# Altium integrated library Analog Devices Data Converters Analog-to-Digital Converters.IntLib: 2400 symbols (part 163 of 338)
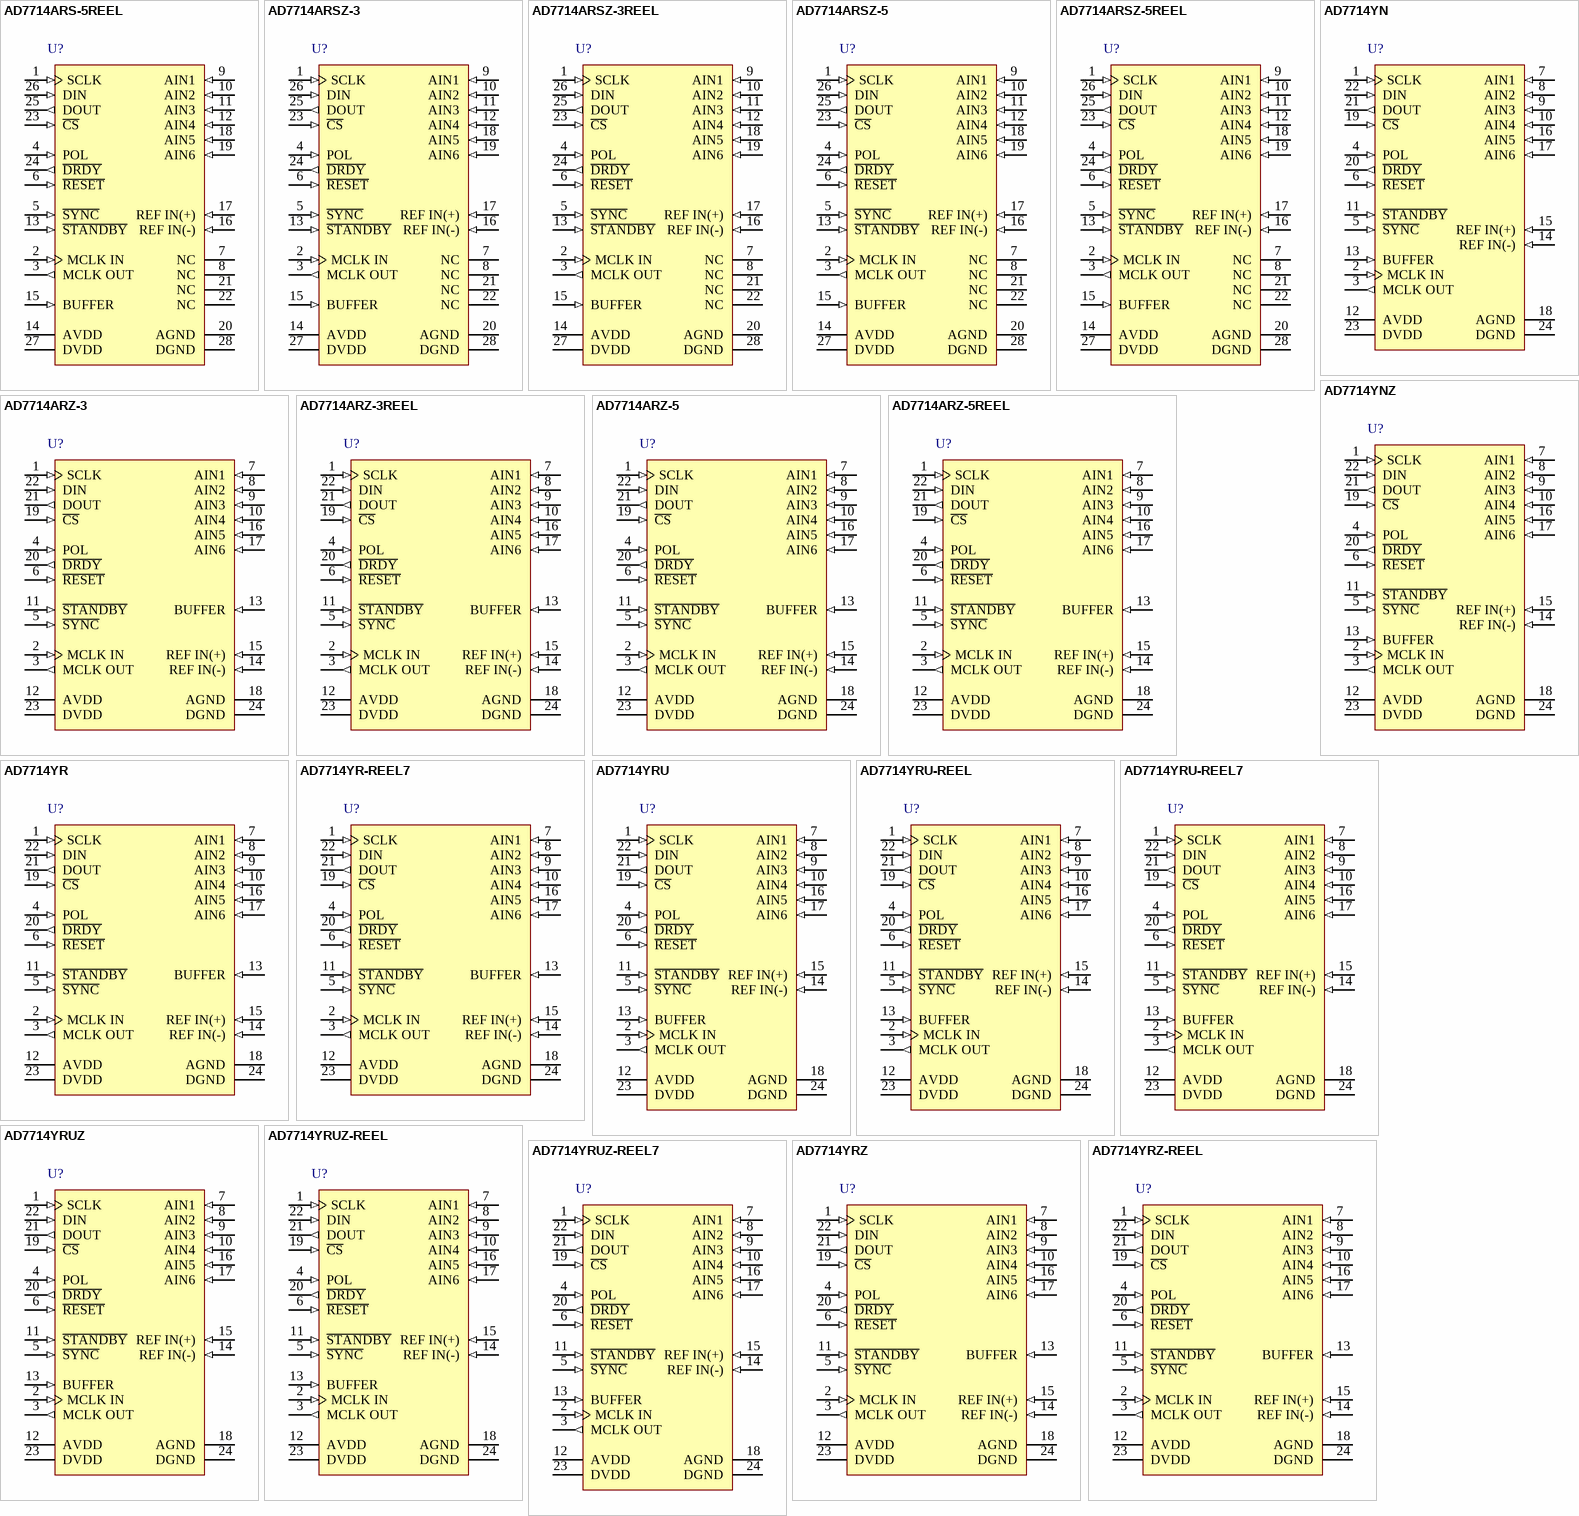
[diagram p247: symbols AD7714ARS-5REEL to AD7714YRZ-REEL]

## AD7714ARZ-3
designator U?
5 Channel 24-Bit Signal Conditioning Analog-to-Digital Converter with Serial, SPI Interface, 500 uA, CMOS, 3 V / 5 V, 1KSPS, -40 to +85 degC, RW-24, Pb-Free, Tube; Part Number: AD7714; Manufacturer: Analog Devices; Resolution (Bits): 24; Channels: 5; Throughput Rate (SPS): 1K; Interface: Ser, SPI; DatasheetVersion: Rev.C; PackageVersion: 060706-A; PackageReference: RW-24; PackageDescription: 24-Lead Standard Small Outline Package [SOIC_W]; RoHS: Y; Packing: Tube; Mounting Technology: Surface Mount; Code_JEDEC: MS-013-AD; ComponentLink1Description: Manufacturer URL; ComponentLink1URL: http://www.analog.com/en/index.html; ComponentLink2Description: Datasheet; ComponentLink2URL: http://www.analog.com/static/imported-files/data_sheets/AD7714.pdf; ComponentLink3Description: Package Specification; ComponentLink3URL: http://www.analog.com/static/imported-files/packages/33665150946139RW_24.pdf; ComponentLink4Description: Product URL; ComponentLink4URL: http://www.analog.com/en/analog-to-digital-converters/ad-converters/ad7714/products/product.html
footprint RW-24_N (SOIC, 24-Leads, Body 15.4x7.5mm, Pitch 1.27mm, IPC Medium Density)
footprint RW-24_L (SOIC, 24-Leads, Body 15.4x7.5mm, Pitch 1.27mm, IPC High Density)
footprint RW-24_M (SOIC, 24-Leads, Body 15.4x7.5mm, Pitch 1.27mm, IPC Low Density)
pins: 1 SCLK (in) "Serial Clock. Logic Input. An external serial clock is applied to this input to access serial data from the AD7714. This serial clock can be a continuous clock with all data transmitted in a continuous train of pulses.(See Datasheet)", 2 MCLK IN (in) "Master Clock signal for the device. This can be provided in the form of a crystal/resonator or external clock. A crystal/resonator can be tied across the MCLK IN and MCLK OUT pins. Alternatively, the MCLK IN pin can be (See Datasheet)", 3 MCLK OUT (out) "When the master clock for the device is a crystal/resonator, the crystal/resonator  is connected between MCLK IN and MCLK OUT. If an external clock is applied to the MCLK IN, MCLK OUT provides an inverted clock signal. This (See Datasheet)", 4 POL (in) "Clock Polarity. Logic Input. With this input low, the first transition of the serial clock in a data transfer operation is from a low to a high. In microcontroller applications, this means that the serial clock should idle (See Datasheet)", 5 ~{SYNC} (in) "Logic Input which allows for synchronization of the digital filters and analog modulators when using a number of AD7714s. While S\Y\N\C\ is low, the nodes of the digital filter, the filter control logic and the calibration (See Datasheet)", 6 ~{RESET} (in) "Logic Input. Active low input which resets the control logic, interface logic, digital filter and analog modulator of the part to power-on status.", 7 AIN1 (in) "Analog Input Channel 1. Programmable-gain analog input which can be used as a pseudo-differential input when used with AIN6 or as the positive input of a differential analog input pair when used with AIN2 (see Communications (See Datasheet)", 8 AIN2 (in) "Analog Input Channel 2. Programmable-gain analog input which can be used as a pseudo-differential input  when used with AIN6 or as the negative input of a differential analog input pair when used with AIN1 (see (See Datasheet)", 9 AIN3 (in) "Analog Input Channel 3. Programmable-gain analog input which can be used as a pseudo-differential input when used with AIN6 or as the positive input of a differential analog input pair when used with AIN4 (see Communications (See Datasheet)", 10 AIN4 (in) "Analog Input Channel 4. Programmable-gain analog input which can be used as a pseudo-differential input when used with AIN6 or as the negative input of a differential analog input pair when used with AIN3 (see Communications (See Datasheet)", 11 ~{STANDBY} (in) "Logic Input. Taking this pin low shuts down the analog and digital circuitry, reducing current consumption to typically 5 uA.", 12 AVDD (power) "Analog Positive Supply Voltage, A Grade Versions: +3.3 V nominal (AD7714-3) or +5 V nominal (AD7714-5);Y Grade Versions: 3 V or 5 V nominal.", 13 BUFFER (in) "Buffer Option Select. Logic Input. With this input low, the on-chip buffer on the analog input (after the multiplexer and before the analog modulator) is shorted out. With the buffer shorted out the current flowing in the (See Datasheet)", 14 REF IN(-) (in) "Reference Input. Negative input of the differential reference input to the AD7714. The REF IN(-) can lie anywhere between AVDD and AGND provided REFIN(+) is greater than REF IN(-).", 15 REF IN(+) (in) "Reference Input. Positive input of the differential reference input to the AD7714. The reference input is differential with the provision that REF IN(+) must be greater than REF IN(-). REF IN(+) can lie anywhere between AVDD (See Datasheet)", 16 AIN5 (in) "Analog Input Channel 5. Programmable-gain analog input which is the positive input of a differential analog input pair when used with AIN6 (see Communications Register section).", 17 AIN6 (in) "Analog Input Channel 6. Reference point for AIN1 through AIN4 in pseudo-differential mode or as the negative input of a differential input pair when used with AIN5 (see Communications Register section).", 18 AGND (power) "Ground reference point for analog circuitry.", 19 ~{CS} (in) "Chip Select. Active low Logic Input used to select the AD7714. With this input hard-wired low, the AD7714 can operate in its three-wire interface mode with SCLK, DIN and DOUT used to interface to the device. C\S\ can be used (See Datasheet)", 20 ~{DRDY} (out) "Logic output. A logic low on this output indicates that a new output word is available from the AD7714 data register. The D\R\D\Y\ pin will return high upon completion of a read operation of a full output word. If no data (See Datasheet)", 21 DOUT (out) "Serial Data Output with serial data being read from the output shift register on the part. This output shift register can contain information from the calibration registers, mode register, communications register, filter (See Datasheet)", 22 DIN (in) "Serial Data Input with serial data being written to the input shift register on the part. Data from this input shift register is transferred to the calibration registers, mode register, communications register or filter (See Datasheet)", 23 DVDD (power) "Digital Supply Voltage, A Grade Versions: +3.3 V or +5 V nominal; Y Grade Versions: 3 V or 5 V nominal.", 24 DGND (power) "Ground reference point for digital circuitry."

## AD7714ARZ-3REEL
designator U?
5 Channel 24-Bit Signal Conditioning Analog-to-Digital Converter with Serial, SPI Interface, 500 uA, CMOS, 3 V, 1KSPS, -40 to +85 degC, Pb-Free, Reel; Part Number: AD7714; Manufacturer: Analog Devices; Resolution (Bits): 24; Channels: 5; Throughput Rate (SPS): 1K; Interface: Ser, SPI; DatasheetVersion: Rev.C; PackageVersion: 060706-A; PackageReference: RW-24; PackageDescription: 24-Lead Standard Small Outline Package [SOIC_W]; RoHS: Y; Packing: Reel; Mounting Technology: Surface Mount; Code_JEDEC: MS-013-AD; ComponentLink1Description: Manufacturer URL; ComponentLink1URL: http://www.analog.com/en/index.html; ComponentLink2Description: Datasheet; ComponentLink2URL: http://www.analog.com/static/imported-files/data_sheets/AD7714.pdf; ComponentLink3Description: Package Specification; ComponentLink3URL: http://www.analog.com/static/imported-files/packages/33665150946139RW_24.pdf; ComponentLink4Description: Product URL; ComponentLink4URL: http://www.analog.com/en/analog-to-digital-converters/ad-converters/ad7714/products/product.html
footprint RW-24_N (SOIC, 24-Leads, Body 15.4x7.5mm, Pitch 1.27mm, IPC Medium Density)
footprint RW-24_L (SOIC, 24-Leads, Body 15.4x7.5mm, Pitch 1.27mm, IPC High Density)
footprint RW-24_M (SOIC, 24-Leads, Body 15.4x7.5mm, Pitch 1.27mm, IPC Low Density)
pins: 1 SCLK (in) "Serial Clock. Logic Input. An external serial clock is applied to this input to access serial data from the AD7714. This serial clock can be a continuous clock with all data transmitted in a continuous train of pulses.(See Datasheet)", 2 MCLK IN (in) "Master Clock signal for the device. This can be provided in the form of a crystal/resonator or external clock. A crystal/resonator can be tied across the MCLK IN and MCLK OUT pins. Alternatively, the MCLK IN pin can be (See Datasheet)", 3 MCLK OUT (out) "When the master clock for the device is a crystal/resonator, the crystal/resonator  is connected between MCLK IN and MCLK OUT. If an external clock is applied to the MCLK IN, MCLK OUT provides an inverted clock signal. This (See Datasheet)", 4 POL (in) "Clock Polarity. Logic Input. With this input low, the first transition of the serial clock in a data transfer operation is from a low to a high. In microcontroller applications, this means that the serial clock should idle (See Datasheet)", 5 ~{SYNC} (in) "Logic Input which allows for synchronization of the digital filters and analog modulators when using a number of AD7714s. While S\Y\N\C\ is low, the nodes of the digital filter, the filter control logic and the calibration (See Datasheet)", 6 ~{RESET} (in) "Logic Input. Active low input which resets the control logic, interface logic, digital filter and analog modulator of the part to power-on status.", 7 AIN1 (in) "Analog Input Channel 1. Programmable-gain analog input which can be used as a pseudo-differential input when used with AIN6 or as the positive input of a differential analog input pair when used with AIN2 (see Communications (See Datasheet)", 8 AIN2 (in) "Analog Input Channel 2. Programmable-gain analog input which can be used as a pseudo-differential input  when used with AIN6 or as the negative input of a differential analog input pair when used with AIN1 (see (See Datasheet)", 9 AIN3 (in) "Analog Input Channel 3. Programmable-gain analog input which can be used as a pseudo-differential input when used with AIN6 or as the positive input of a differential analog input pair when used with AIN4 (see Communications (See Datasheet)", 10 AIN4 (in) "Analog Input Channel 4. Programmable-gain analog input which can be used as a pseudo-differential input when used with AIN6 or as the negative input of a differential analog input pair when used with AIN3 (see Communications (See Datasheet)", 11 ~{STANDBY} (in) "Logic Input. Taking this pin low shuts down the analog and digital circuitry, reducing current consumption to typically 5 uA.", 12 AVDD (power) "Analog Positive Supply Voltage, A Grade Versions: +3.3 V nominal (AD7714-3) or +5 V nominal (AD7714-5);Y Grade Versions: 3 V or 5 V nominal.", 13 BUFFER (in) "Buffer Option Select. Logic Input. With this input low, the on-chip buffer on the analog input (after the multiplexer and before the analog modulator) is shorted out. With the buffer shorted out the current flowing in the (See Datasheet)", 14 REF IN(-) (in) "Reference Input. Negative input of the differential reference input to the AD7714. The REF IN(-) can lie anywhere between AVDD and AGND provided REFIN(+) is greater than REF IN(-).", 15 REF IN(+) (in) "Reference Input. Positive input of the differential reference input to the AD7714. The reference input is differential with the provision that REF IN(+) must be greater than REF IN(-). REF IN(+) can lie anywhere between AVDD (See Datasheet)", 16 AIN5 (in) "Analog Input Channel 5. Programmable-gain analog input which is the positive input of a differential analog input pair when used with AIN6 (see Communications Register section).", 17 AIN6 (in) "Analog Input Channel 6. Reference point for AIN1 through AIN4 in pseudo-differential mode or as the negative input of a differential input pair when used with AIN5 (see Communications Register section).", 18 AGND (power) "Ground reference point for analog circuitry.", 19 ~{CS} (in) "Chip Select. Active low Logic Input used to select the AD7714. With this input hard-wired low, the AD7714 can operate in its three-wire interface mode with SCLK, DIN and DOUT used to interface to the device. C\S\ can be used (See Datasheet)", 20 ~{DRDY} (out) "Logic output. A logic low on this output indicates that a new output word is available from the AD7714 data register. The D\R\D\Y\ pin will return high upon completion of a read operation of a full output word. If no data (See Datasheet)", 21 DOUT (out) "Serial Data Output with serial data being read from the output shift register on the part. This output shift register can contain information from the calibration registers, mode register, communications register, filter (See Datasheet)", 22 DIN (in) "Serial Data Input with serial data being written to the input shift register on the part. Data from this input shift register is transferred to the calibration registers, mode register, communications register or filter (See Datasheet)", 23 DVDD (power) "Digital Supply Voltage, A Grade Versions: +3.3 V or +5 V nominal; Y Grade Versions: 3 V or 5 V nominal.", 24 DGND (power) "Ground reference point for digital circuitry."

## AD7714ARZ-5
designator U?
5 Channel 24-Bit Signal Conditioning Analog-to-Digital Converter with Serial, SPI Interface, 500 uA, CMOS, 3 V / 5 V, 1KSPS, -40 to +85 degC, RW-24, Pb-Free, Tube; Part Number: AD7714; Manufacturer: Analog Devices; Resolution (Bits): 24; Channels: 5; Throughput Rate (SPS): 1K; Interface: Ser, SPI; DatasheetVersion: Rev.C; PackageVersion: 060706-A; PackageReference: RW-24; PackageDescription: 24-Lead Standard Small Outline Package [SOIC_W]; RoHS: Y; Packing: Tube; Mounting Technology: Surface Mount; Code_JEDEC: MS-013-AD; ComponentLink1Description: Manufacturer URL; ComponentLink1URL: http://www.analog.com/en/index.html; ComponentLink2Description: Datasheet; ComponentLink2URL: http://www.analog.com/static/imported-files/data_sheets/AD7714.pdf; ComponentLink3Description: Package Specification; ComponentLink3URL: http://www.analog.com/static/imported-files/packages/33665150946139RW_24.pdf; ComponentLink4Description: Product URL; ComponentLink4URL: http://www.analog.com/en/analog-to-digital-converters/ad-converters/ad7714/products/product.html
footprint RW-24_N (SOIC, 24-Leads, Body 15.4x7.5mm, Pitch 1.27mm, IPC Medium Density)
footprint RW-24_L (SOIC, 24-Leads, Body 15.4x7.5mm, Pitch 1.27mm, IPC High Density)
footprint RW-24_M (SOIC, 24-Leads, Body 15.4x7.5mm, Pitch 1.27mm, IPC Low Density)
pins: 1 SCLK (in) "Serial Clock. Logic Input. An external serial clock is applied to this input to access serial data from the AD7714. This serial clock can be a continuous clock with all data transmitted in a continuous train of pulses.(See Datasheet)", 2 MCLK IN (in) "Master Clock signal for the device. This can be provided in the form of a crystal/resonator or external clock. A crystal/resonator can be tied across the MCLK IN and MCLK OUT pins. Alternatively, the MCLK IN pin can be (See Datasheet)", 3 MCLK OUT (out) "When the master clock for the device is a crystal/resonator, the crystal/resonator  is connected between MCLK IN and MCLK OUT. If an external clock is applied to the MCLK IN, MCLK OUT provides an inverted clock signal. This (See Datasheet)", 4 POL (in) "Clock Polarity. Logic Input. With this input low, the first transition of the serial clock in a data transfer operation is from a low to a high. In microcontroller applications, this means that the serial clock should idle (See Datasheet)", 5 ~{SYNC} (in) "Logic Input which allows for synchronization of the digital filters and analog modulators when using a number of AD7714s. While S\Y\N\C\ is low, the nodes of the digital filter, the filter control logic and the calibration (See Datasheet)", 6 ~{RESET} (in) "Logic Input. Active low input which resets the control logic, interface logic, digital filter and analog modulator of the part to power-on status.", 7 AIN1 (in) "Analog Input Channel 1. Programmable-gain analog input which can be used as a pseudo-differential input when used with AIN6 or as the positive input of a differential analog input pair when used with AIN2 (see Communications (See Datasheet)", 8 AIN2 (in) "Analog Input Channel 2. Programmable-gain analog input which can be used as a pseudo-differential input  when used with AIN6 or as the negative input of a differential analog input pair when used with AIN1 (see (See Datasheet)", 9 AIN3 (in) "Analog Input Channel 3. Programmable-gain analog input which can be used as a pseudo-differential input when used with AIN6 or as the positive input of a differential analog input pair when used with AIN4 (see Communications (See Datasheet)", 10 AIN4 (in) "Analog Input Channel 4. Programmable-gain analog input which can be used as a pseudo-differential input when used with AIN6 or as the negative input of a differential analog input pair when used with AIN3 (see Communications (See Datasheet)", 11 ~{STANDBY} (in) "Logic Input. Taking this pin low shuts down the analog and digital circuitry, reducing current consumption to typically 5 uA.", 12 AVDD (power) "Analog Positive Supply Voltage, A Grade Versions: +3.3 V nominal (AD7714-3) or +5 V nominal (AD7714-5);Y Grade Versions: 3 V or 5 V nominal.", 13 BUFFER (in) "Buffer Option Select. Logic Input. With this input low, the on-chip buffer on the analog input (after the multiplexer and before the analog modulator) is shorted out. With the buffer shorted out the current flowing in the (See Datasheet)", 14 REF IN(-) (in) "Reference Input. Negative input of the differential reference input to the AD7714. The REF IN(-) can lie anywhere between AVDD and AGND provided REFIN(+) is greater than REF IN(-).", 15 REF IN(+) (in) "Reference Input. Positive input of the differential reference input to the AD7714. The reference input is differential with the provision that REF IN(+) must be greater than REF IN(-). REF IN(+) can lie anywhere between AVDD (See Datasheet)", 16 AIN5 (in) "Analog Input Channel 5. Programmable-gain analog input which is the positive input of a differential analog input pair when used with AIN6 (see Communications Register section).", 17 AIN6 (in) "Analog Input Channel 6. Reference point for AIN1 through AIN4 in pseudo-differential mode or as the negative input of a differential input pair when used with AIN5 (see Communications Register section).", 18 AGND (power) "Ground reference point for analog circuitry.", 19 ~{CS} (in) "Chip Select. Active low Logic Input used to select the AD7714. With this input hard-wired low, the AD7714 can operate in its three-wire interface mode with SCLK, DIN and DOUT used to interface to the device. C\S\ can be used (See Datasheet)", 20 ~{DRDY} (out) "Logic output. A logic low on this output indicates that a new output word is available from the AD7714 data register. The D\R\D\Y\ pin will return high upon completion of a read operation of a full output word. If no data (See Datasheet)", 21 DOUT (out) "Serial Data Output with serial data being read from the output shift register on the part. This output shift register can contain information from the calibration registers, mode register, communications register, filter (See Datasheet)", 22 DIN (in) "Serial Data Input with serial data being written to the input shift register on the part. Data from this input shift register is transferred to the calibration registers, mode register, communications register or filter (See Datasheet)", 23 DVDD (power) "Digital Supply Voltage, A Grade Versions: +3.3 V or +5 V nominal; Y Grade Versions: 3 V or 5 V nominal.", 24 DGND (power) "Ground reference point for digital circuitry."

## AD7714ARZ-5REEL
designator U?
5 Channel 24-Bit Signal Conditioning Analog-to-Digital Converter with Serial, SPI Interface, 500 uA, CMOS, 5 V, 1KSPS, -40 to +85 degC, Pb-Free, Reel; Part Number: AD7714; Manufacturer: Analog Devices; Resolution (Bits): 24; Channels: 5; Throughput Rate (SPS): 1K; Interface: Ser, SPI; DatasheetVersion: Rev.C; PackageVersion: 060706-A; PackageReference: RW-24; PackageDescription: 24-Lead Standard Small Outline Package [SOIC_W]; RoHS: Y; Packing: Reel; Mounting Technology: Surface Mount; Code_JEDEC: MS-013-AD; ComponentLink1Description: Manufacturer URL; ComponentLink1URL: http://www.analog.com/en/index.html; ComponentLink2Description: Datasheet; ComponentLink2URL: http://www.analog.com/static/imported-files/data_sheets/AD7714.pdf; ComponentLink3Description: Package Specification; ComponentLink3URL: http://www.analog.com/static/imported-files/packages/33665150946139RW_24.pdf; ComponentLink4Description: Product URL; ComponentLink4URL: http://www.analog.com/en/analog-to-digital-converters/ad-converters/ad7714/products/product.html
footprint RW-24_N (SOIC, 24-Leads, Body 15.4x7.5mm, Pitch 1.27mm, IPC Medium Density)
footprint RW-24_L (SOIC, 24-Leads, Body 15.4x7.5mm, Pitch 1.27mm, IPC High Density)
footprint RW-24_M (SOIC, 24-Leads, Body 15.4x7.5mm, Pitch 1.27mm, IPC Low Density)
pins: 1 SCLK (in) "Serial Clock. Logic Input. An external serial clock is applied to this input to access serial data from the AD7714. This serial clock can be a continuous clock with all data transmitted in a continuous train of pulses.(See Datasheet)", 2 MCLK IN (in) "Master Clock signal for the device. This can be provided in the form of a crystal/resonator or external clock. A crystal/resonator can be tied across the MCLK IN and MCLK OUT pins. Alternatively, the MCLK IN pin can be (See Datasheet)", 3 MCLK OUT (out) "When the master clock for the device is a crystal/resonator, the crystal/resonator  is connected between MCLK IN and MCLK OUT. If an external clock is applied to the MCLK IN, MCLK OUT provides an inverted clock signal. This (See Datasheet)", 4 POL (in) "Clock Polarity. Logic Input. With this input low, the first transition of the serial clock in a data transfer operation is from a low to a high. In microcontroller applications, this means that the serial clock should idle (See Datasheet)", 5 ~{SYNC} (in) "Logic Input which allows for synchronization of the digital filters and analog modulators when using a number of AD7714s. While S\Y\N\C\ is low, the nodes of the digital filter, the filter control logic and the calibration (See Datasheet)", 6 ~{RESET} (in) "Logic Input. Active low input which resets the control logic, interface logic, digital filter and analog modulator of the part to power-on status.", 7 AIN1 (in) "Analog Input Channel 1. Programmable-gain analog input which can be used as a pseudo-differential input when used with AIN6 or as the positive input of a differential analog input pair when used with AIN2 (see Communications (See Datasheet)", 8 AIN2 (in) "Analog Input Channel 2. Programmable-gain analog input which can be used as a pseudo-differential input  when used with AIN6 or as the negative input of a differential analog input pair when used with AIN1 (see (See Datasheet)", 9 AIN3 (in) "Analog Input Channel 3. Programmable-gain analog input which can be used as a pseudo-differential input when used with AIN6 or as the positive input of a differential analog input pair when used with AIN4 (see Communications (See Datasheet)", 10 AIN4 (in) "Analog Input Channel 4. Programmable-gain analog input which can be used as a pseudo-differential input when used with AIN6 or as the negative input of a differential analog input pair when used with AIN3 (see Communications (See Datasheet)", 11 ~{STANDBY} (in) "Logic Input. Taking this pin low shuts down the analog and digital circuitry, reducing current consumption to typically 5 uA.", 12 AVDD (power) "Analog Positive Supply Voltage, A Grade Versions: +3.3 V nominal (AD7714-3) or +5 V nominal (AD7714-5);Y Grade Versions: 3 V or 5 V nominal.", 13 BUFFER (in) "Buffer Option Select. Logic Input. With this input low, the on-chip buffer on the analog input (after the multiplexer and before the analog modulator) is shorted out. With the buffer shorted out the current flowing in the (See Datasheet)", 14 REF IN(-) (in) "Reference Input. Negative input of the differential reference input to the AD7714. The REF IN(-) can lie anywhere between AVDD and AGND provided REFIN(+) is greater than REF IN(-).", 15 REF IN(+) (in) "Reference Input. Positive input of the differential reference input to the AD7714. The reference input is differential with the provision that REF IN(+) must be greater than REF IN(-). REF IN(+) can lie anywhere between AVDD (See Datasheet)", 16 AIN5 (in) "Analog Input Channel 5. Programmable-gain analog input which is the positive input of a differential analog input pair when used with AIN6 (see Communications Register section).", 17 AIN6 (in) "Analog Input Channel 6. Reference point for AIN1 through AIN4 in pseudo-differential mode or as the negative input of a differential input pair when used with AIN5 (see Communications Register section).", 18 AGND (power) "Ground reference point for analog circuitry.", 19 ~{CS} (in) "Chip Select. Active low Logic Input used to select the AD7714. With this input hard-wired low, the AD7714 can operate in its three-wire interface mode with SCLK, DIN and DOUT used to interface to the device. C\S\ can be used (See Datasheet)", 20 ~{DRDY} (out) "Logic output. A logic low on this output indicates that a new output word is available from the AD7714 data register. The D\R\D\Y\ pin will return high upon completion of a read operation of a full output word. If no data (See Datasheet)", 21 DOUT (out) "Serial Data Output with serial data being read from the output shift register on the part. This output shift register can contain information from the calibration registers, mode register, communications register, filter (See Datasheet)", 22 DIN (in) "Serial Data Input with serial data being written to the input shift register on the part. Data from this input shift register is transferred to the calibration registers, mode register, communications register or filter (See Datasheet)", 23 DVDD (power) "Digital Supply Voltage, A Grade Versions: +3.3 V or +5 V nominal; Y Grade Versions: 3 V or 5 V nominal.", 24 DGND (power) "Ground reference point for digital circuitry."

## AD7714YN
designator U?
5 Channel 24-Bit Signal Conditioning Analog-to-Digital Converter with Serial, SPI Interface, 500 uA, CMOS, 3 V / 5 V, 1KSPS, -40 to +105 degC, N-24-1, Tube; Part Number: AD7714; Manufacturer: Analog Devices; Resolution (Bits): 24; Channels: 5; Throughput Rate (SPS): 1K; Interface: Ser, SPI; DatasheetVersion: Rev.C; PackageVersion: 071006-A; PackageReference: N-24-1; PackageDescription: 24-Lead Plastic Dual In-Line Package [PDIP] Narrow Body; RoHS: N; Packing: Tube; Mounting Technology: Through-hole; Code_JEDEC: MS-001; ComponentLink1Description: Manufacturer URL; ComponentLink1URL: http://www.analog.com/en/index.html; ComponentLink2Description: Datasheet; ComponentLink2URL: http://www.analog.com/static/imported-files/data_sheets/AD7714.pdf; ComponentLink3Description: Package Specification; ComponentLink3URL: http://www.analog.com/static/imported-files/packages/50726455539629N_24_1.pdf; ComponentLink4Description: Product URL; ComponentLink4URL: http://www.analog.com/en/analog-to-digital-converters/ad-converters/ad7714/products/product.html
footprint N-24-1 (DIP, 24-Leads, Row Spacing 7.62mm, Pitch 2.54mm, Body 31.9x6.6mm)
pins: 1 SCLK (in) "Serial Clock. Logic Input. An external serial clock is applied to this input to access serial data from the AD7714. This serial clock can be a continuous clock with all data transmitted in a continuous train of pulses.(See Datasheet)", 2 MCLK IN (in) "Master Clock signal for the device. This can be provided in the form of a crystal/resonator or external clock. A crystal/resonator can be tied across the MCLK IN and MCLK OUT pins. Alternatively, the MCLK IN pin can be (See Datasheet)", 3 MCLK OUT (out) "When the master clock for the device is a crystal/resonator, the crystal/resonator is connected between MCLK IN and MCLK OUT. If an external clock is applied to the MCLK IN, MCLK OUT provides an inverted clock signal. This (See Datasheet)", 4 POL (in) "Clock Polarity. Logic Input. With this input low, the first transition of the serial clock in a data transfer operation is from a low to a high. In microcontroller applications, this means that the serial clock should idle (See Datasheet)", 5 ~{SYNC} (in) "Logic Input which allows for synchronization of the digital filters and analog modulators when using a number of AD7714s. While S\Y\N\C\ is low, the nodes of the digital filter, the filter control logic and the calibration (See Datasheet)", 6 ~{RESET} (in) "Logic Input. Active low input which resets the control logic, interface logic, digital filter and analog modulator of the part to power-on status.", 7 AIN1 (in) "Analog Input Channel 1. Programmable-gain analog input which can be used as a pseudo-differential input when used with AIN6 or as the positive input of a differential analog input pair when used with AIN2 (see Communications (See Datasheet)", 8 AIN2 (in) "Analog Input Channel 2. Programmable-gain analog input which can be used as a pseudo-differential input when used with AIN6 or as the negative input of a differential analog input pair when used with AIN1 (see Communications (See Datasheet)", 9 AIN3 (in) "Analog Input Channel 3. Programmable-gain analog input which can be used as a pseudo-differential input when used with AIN6 or as the positive input of a differential analog input pair when used with AIN4 (see Communications (See Datasheet)", 10 AIN4 (in) "Analog Input Channel 4. Programmable-gain analog input which can be used as a pseudo-differential input when used with AIN6 or as the negative input of a differential analog input pair when used with AIN3 (see Communications (See Datasheet)", 11 ~{STANDBY} (in) "Logic Input. Taking this pin low shuts down the analog and digital circuitry, reducing current consumption to typically 5 uA.", 12 AVDD (power) "Analog Positive Supply Voltage, A Grade Versions: +3.3V nominal (AD7714-3) or +5V nominal (AD7714-5); Y Grade Versions: 3 V or 5 V nominal.", 13 BUFFER (in) "Buffer Option Select. Logic Input. With this input low, the on-chip buffer on the analog input (after the multiplexer and before the analog modulator) is shorted out. With the buffer shorted out the current flowing in the (See Datasheet)", 14 REF IN(-) (in) "Reference Input. Negative input of the differential reference input to the AD7714. The REF IN(-) can lie anywhere between AVDD and AGND provided REF IN(+) is greater than REF IN(-).", 15 REF IN(+) (in) "Reference Input. Positive input of the differential reference input to the AD7714. The reference input is differential with the provision that REF IN(+) must be greater than REF IN(-). REF IN(+) can lie anywhere between AVDD (See Datasheet)", 16 AIN5 (in) "Analog Input Channel 5. Programmable-gain analog input which is the positive input of a differential analog input pair when used with AIN6 (see Communications Register section).", 17 AIN6 (in) "Analog Input Channel 6. Reference point for AIN1 through AIN4 in pseudo-differential mode or as the negative input of a differential input pair when used with AIN5 (see Communications Register section).", 18 AGND (power) "Ground reference point for analog circuitry.", 19 ~{CS} (in) "Chip Select. Active low Logic Input used to select the AD7714. With this input hard-wired low, the AD7714 can operate in its three-wire interface mode with SCLK, DIN and DOUT used to interface to the device. C\S\ can be used (See Datasheet)", 20 ~{DRDY} (out) "Logic output. A logic low on this output indicates that a new output word is available from the AD7714 data register. The D\R\D\Y\ pin will return high upon completion of a read operation of a full output word. If no data (See Datasheet)", 21 DOUT (out) "Serial Data Output with serial data being read from the output shift register on the part. This output shift register can contain information from the calibration registers, mode register, communications register, filter (See Datasheet)", 22 DIN (in) "Serial Data Input with serial data being written to the input shift register on the part. Data from this input shift register is transferred to the calibration registers, mode register, communications register or filter (See Datasheet)", 23 DVDD (power) "Digital Supply Voltage, A Grade Versions: +3.3V or +5 V nominal; Y Grade Versions: 3 V or 5 V nominal.", 24 DGND (power) "Ground reference point for digital circuitry."

## AD7714YNZ
designator U?
5 Channel 24-Bit Signal Conditioning Analog-to-Digital Converter with Serial, SPI Interface, 500 uA, CMOS, 3 V / 5 V, 1KSPS, -40 to +105 degC, N-24-1, Pb-Free, Tube; Part Number: AD7714; Manufacturer: Analog Devices; Resolution (Bits): 24; Channels: 5; Throughput Rate (SPS): 1K; Interface: Ser, SPI; DatasheetVersion: Rev.C; PackageVersion: 071006-A; PackageReference: N-24-1; PackageDescription: 24-Lead Plastic Dual In-Line Package [PDIP] Narrow Body; RoHS: Y; Packing: Tube; Mounting Technology: Through-hole; Code_JEDEC: MS-001; ComponentLink1Description: Manufacturer URL; ComponentLink1URL: http://www.analog.com/en/index.html; ComponentLink2Description: Datasheet; ComponentLink2URL: http://www.analog.com/static/imported-files/data_sheets/AD7714.pdf; ComponentLink3Description: Package Specification; ComponentLink3URL: http://www.analog.com/static/imported-files/packages/50726455539629N_24_1.pdf; ComponentLink4Description: Product URL; ComponentLink4URL: http://www.analog.com/en/analog-to-digital-converters/ad-converters/ad7714/products/product.html
footprint N-24-1 (DIP, 24-Leads, Row Spacing 7.62mm, Pitch 2.54mm, Body 31.9x6.6mm)
pins: 1 SCLK (in) "Serial Clock. Logic Input. An external serial clock is applied to this input to access serial data from the AD7714. This serial clock can be a continuous clock with all data transmitted in a continuous train of pulses.(See Datasheet)", 2 MCLK IN (in) "Master Clock signal for the device. This can be provided in the form of a crystal/resonator or external clock. A crystal/resonator can be tied across the MCLK IN and MCLK OUT pins. Alternatively, the MCLK IN pin can be (See Datasheet)", 3 MCLK OUT (out) "When the master clock for the device is a crystal/resonator, the crystal/resonator is connected between MCLK IN and MCLK OUT. If an external clock is applied to the MCLK IN, MCLK OUT provides an inverted clock signal. This (See Datasheet)", 4 POL (in) "Clock Polarity. Logic Input. With this input low, the first transition of the serial clock in a data transfer operation is from a low to a high. In microcontroller applications, this means that the serial clock should idle (See Datasheet)", 5 ~{SYNC} (in) "Logic Input which allows for synchronization of the digital filters and analog modulators when using a number of AD7714s. While S\Y\N\C\ is low, the nodes of the digital filter, the filter control logic and the calibration (See Datasheet)", 6 ~{RESET} (in) "Logic Input. Active low input which resets the control logic, interface logic, digital filter and analog modulator of the part to power-on status.", 7 AIN1 (in) "Analog Input Channel 1. Programmable-gain analog input which can be used as a pseudo-differential input when used with AIN6 or as the positive input of a differential analog input pair when used with AIN2 (see Communications (See Datasheet)", 8 AIN2 (in) "Analog Input Channel 2. Programmable-gain analog input which can be used as a pseudo-differential input when used with AIN6 or as the negative input of a differential analog input pair when used with AIN1 (see Communications (See Datasheet)", 9 AIN3 (in) "Analog Input Channel 3. Programmable-gain analog input which can be used as a pseudo-differential input when used with AIN6 or as the positive input of a differential analog input pair when used with AIN4 (see Communications (See Datasheet)", 10 AIN4 (in) "Analog Input Channel 4. Programmable-gain analog input which can be used as a pseudo-differential input when used with AIN6 or as the negative input of a differential analog input pair when used with AIN3 (see Communications (See Datasheet)", 11 ~{STANDBY} (in) "Logic Input. Taking this pin low shuts down the analog and digital circuitry, reducing current consumption to typically 5 uA.", 12 AVDD (power) "Analog Positive Supply Voltage, A Grade Versions: +3.3V nominal (AD7714-3) or +5V nominal (AD7714-5); Y Grade Versions: 3 V or 5 V nominal.", 13 BUFFER (in) "Buffer Option Select. Logic Input. With this input low, the on-chip buffer on the analog input (after the multiplexer and before the analog modulator) is shorted out. With the buffer shorted out the current flowing in the (See Datasheet)", 14 REF IN(-) (in) "Reference Input. Negative input of the differential reference input to the AD7714. The REF IN(-) can lie anywhere between AVDD and AGND provided REF IN(+) is greater than REF IN(-).", 15 REF IN(+) (in) "Reference Input. Positive input of the differential reference input to the AD7714. The reference input is differential with the provision that REF IN(+) must be greater than REF IN(-). REF IN(+) can lie anywhere between AVDD (See Datasheet)", 16 AIN5 (in) "Analog Input Channel 5. Programmable-gain analog input which is the positive input of a differential analog input pair when used with AIN6 (see Communications Register section).", 17 AIN6 (in) "Analog Input Channel 6. Reference point for AIN1 through AIN4 in pseudo-differential mode or as the negative input of a differential input pair when used with AIN5 (see Communications Register section).", 18 AGND (power) "Ground reference point for analog circuitry.", 19 ~{CS} (in) "Chip Select. Active low Logic Input used to select the AD7714. With this input hard-wired low, the AD7714 can operate in its three-wire interface mode with SCLK, DIN and DOUT used to interface to the device. C\S\ can be used (See Datasheet)", 20 ~{DRDY} (out) "Logic output. A logic low on this output indicates that a new output word is available from the AD7714 data register. The D\R\D\Y\ pin will return high upon completion of a read operation of a full output word. If no data (See Datasheet)", 21 DOUT (out) "Serial Data Output with serial data being read from the output shift register on the part. This output shift register can contain information from the calibration registers, mode register, communications register, filter (See Datasheet)", 22 DIN (in) "Serial Data Input with serial data being written to the input shift register on the part. Data from this input shift register is transferred to the calibration registers, mode register, communications register or filter (See Datasheet)", 23 DVDD (power) "Digital Supply Voltage, A Grade Versions: +3.3V or +5 V nominal; Y Grade Versions: 3 V or 5 V nominal.", 24 DGND (power) "Ground reference point for digital circuitry."

## AD7714YR
designator U?
5 Channel 24-Bit Signal Conditioning Analog-to-Digital Converter with Serial, SPI Interface, 500 uA, CMOS, 3 V / 5 V, 1KSPS, -40 to +105 degC, RW-24, Tube; Part Number: AD7714; Manufacturer: Analog Devices; Resolution (Bits): 24; Channels: 5; Throughput Rate (SPS): 1K; Interface: Ser, SPI; DatasheetVersion: Rev.C; PackageVersion: 060706-A; PackageReference: RW-24; PackageDescription: 24-Lead Standard Small Outline Package [SOIC_W]; RoHS: N; Packing: Tube; Mounting Technology: Surface Mount; Code_JEDEC: MS-013-AD; ComponentLink1Description: Manufacturer URL; ComponentLink1URL: http://www.analog.com/en/index.html; ComponentLink2Description: Datasheet; ComponentLink2URL: http://www.analog.com/static/imported-files/data_sheets/AD7714.pdf; ComponentLink3Description: Package Specification; ComponentLink3URL: http://www.analog.com/static/imported-files/packages/33665150946139RW_24.pdf; ComponentLink4Description: Product URL; ComponentLink4URL: http://www.analog.com/en/analog-to-digital-converters/ad-converters/ad7714/products/product.html
footprint RW-24_N (SOIC, 24-Leads, Body 15.4x7.5mm, Pitch 1.27mm, IPC Medium Density)
footprint RW-24_L (SOIC, 24-Leads, Body 15.4x7.5mm, Pitch 1.27mm, IPC High Density)
footprint RW-24_M (SOIC, 24-Leads, Body 15.4x7.5mm, Pitch 1.27mm, IPC Low Density)
pins: 1 SCLK (in) "Serial Clock. Logic Input. An external serial clock is applied to this input to access serial data from the AD7714. This serial clock can be a continuous clock with all data transmitted in a continuous train of pulses.(See Datasheet)", 2 MCLK IN (in) "Master Clock signal for the device. This can be provided in the form of a crystal/resonator or external clock. A crystal/resonator can be tied across the MCLK IN and MCLK OUT pins. Alternatively, the MCLK IN pin can be (See Datasheet)", 3 MCLK OUT (out) "When the master clock for the device is a crystal/resonator, the crystal/resonator  is connected between MCLK IN and MCLK OUT. If an external clock is applied to the MCLK IN, MCLK OUT provides an inverted clock signal. This (See Datasheet)", 4 POL (in) "Clock Polarity. Logic Input. With this input low, the first transition of the serial clock in a data transfer operation is from a low to a high. In microcontroller applications, this means that the serial clock should idle (See Datasheet)", 5 ~{SYNC} (in) "Logic Input which allows for synchronization of the digital filters and analog modulators when using a number of AD7714s. While S\Y\N\C\ is low, the nodes of the digital filter, the filter control logic and the calibration (See Datasheet)", 6 ~{RESET} (in) "Logic Input. Active low input which resets the control logic, interface logic, digital filter and analog modulator of the part to power-on status.", 7 AIN1 (in) "Analog Input Channel 1. Programmable-gain analog input which can be used as a pseudo-differential input when used with AIN6 or as the positive input of a differential analog input pair when used with AIN2 (see Communications (See Datasheet)", 8 AIN2 (in) "Analog Input Channel 2. Programmable-gain analog input which can be used as a pseudo-differential input  when used with AIN6 or as the negative input of a differential analog input pair when used with AIN1 (see (See Datasheet)", 9 AIN3 (in) "Analog Input Channel 3. Programmable-gain analog input which can be used as a pseudo-differential input when used with AIN6 or as the positive input of a differential analog input pair when used with AIN4 (see Communications (See Datasheet)", 10 AIN4 (in) "Analog Input Channel 4. Programmable-gain analog input which can be used as a pseudo-differential input when used with AIN6 or as the negative input of a differential analog input pair when used with AIN3 (see Communications (See Datasheet)", 11 ~{STANDBY} (in) "Logic Input. Taking this pin low shuts down the analog and digital circuitry, reducing current consumption to typically 5 uA.", 12 AVDD (power) "Analog Positive Supply Voltage, A Grade Versions: +3.3 V nominal (AD7714-3) or +5 V nominal (AD7714-5);Y Grade Versions: 3 V or 5 V nominal.", 13 BUFFER (in) "Buffer Option Select. Logic Input. With this input low, the on-chip buffer on the analog input (after the multiplexer and before the analog modulator) is shorted out. With the buffer shorted out the current flowing in the (See Datasheet)", 14 REF IN(-) (in) "Reference Input. Negative input of the differential reference input to the AD7714. The REF IN(-) can lie anywhere between AVDD and AGND provided REFIN(+) is greater than REF IN(-).", 15 REF IN(+) (in) "Reference Input. Positive input of the differential reference input to the AD7714. The reference input is differential with the provision that REF IN(+) must be greater than REF IN(-). REF IN(+) can lie anywhere between AVDD (See Datasheet)", 16 AIN5 (in) "Analog Input Channel 5. Programmable-gain analog input which is the positive input of a differential analog input pair when used with AIN6 (see Communications Register section).", 17 AIN6 (in) "Analog Input Channel 6. Reference point for AIN1 through AIN4 in pseudo-differential mode or as the negative input of a differential input pair when used with AIN5 (see Communications Register section).", 18 AGND (power) "Ground reference point for analog circuitry.", 19 ~{CS} (in) "Chip Select. Active low Logic Input used to select the AD7714. With this input hard-wired low, the AD7714 can operate in its three-wire interface mode with SCLK, DIN and DOUT used to interface to the device. C\S\ can be used (See Datasheet)", 20 ~{DRDY} (out) "Logic output. A logic low on this output indicates that a new output word is available from the AD7714 data register. The D\R\D\Y\ pin will return high upon completion of a read operation of a full output word. If no data (See Datasheet)", 21 DOUT (out) "Serial Data Output with serial data being read from the output shift register on the part. This output shift register can contain information from the calibration registers, mode register, communications register, filter (See Datasheet)", 22 DIN (in) "Serial Data Input with serial data being written to the input shift register on the part. Data from this input shift register is transferred to the calibration registers, mode register, communications register or filter (See Datasheet)", 23 DVDD (power) "Digital Supply Voltage, A Grade Versions: +3.3 V or +5 V nominal; Y Grade Versions: 3 V or 5 V nominal.", 24 DGND (power) "Ground reference point for digital circuitry."